# EAGLE library part ADP3120A (library ic-power)
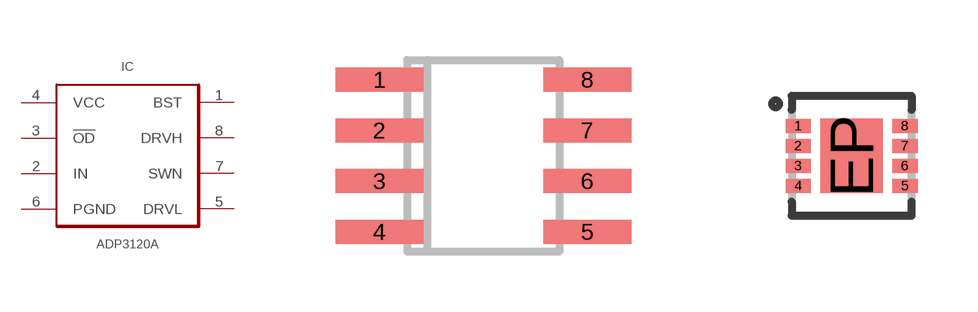
[diagram p7: symbol with the pads of SO-08; footprints SO-08, DFN-0.5P-8-3X3]

Designator prefix IC

## ADP3120AJRZ  [SO-08]
1  BST  pas
2  IN  in
3  !OD  in
4  VCC  pas
5  DRVL  pas
6  PGND  pas
7  SWN  pas
8  DRVH  pas

## ADP3120AJCPZ  [DFN-0.5P-8-3X3]
Pads as for SO-08

## Footprint SO-08 (pad centres in mm)
Small Outline Narrow Plastic Gull Wing 150-mil body, package type SN
smd 2.2 x 0.6: 1 -2.6,1.905; 2 -2.6,0.635; 3 -2.6,-0.635; 4 -2.6,-1.905; 5 2.6,-1.905; 6 2.6,-0.635; 7 2.6,0.635; 8 2.6,1.905

## Footprint DFN-0.5P-8-3X3 (pad centres in mm)
ONSemi package 506BJ
smd 0.63 x 0.35: 1 -1.335,0.75; 2 -1.335,0.25; 3 -1.335,-0.25; 4 -1.335,-0.75; 5 1.335,-0.75; 6 1.335,-0.25; 7 1.335,0.25; 8 1.335,0.75
smd 1.57 x 1.87: EP 0,0